# Altium integrated library IS25LP016D.IntLib: 1 symbol
Pins are listed as number, name and electrical type; pins without a type are passive.

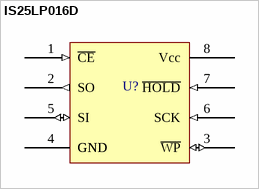
[diagram p0: symbol IS25LP016D]

## IS25LP016D
designator U?
footprint IS25LP016D
pins: 1 ~{CE} (in), 2 SO (out), 3 ~{WP} (io), 4 GND (power), 5 SI (io), 6 SCK (in), 7 ~{HOLD} (in), 8 Vcc (power), 9 GND (power)